# Altium schematic symbol library my_components.SchLib: 46 symbols
Pins are listed as number, name and electrical type; pins without a type are passive.

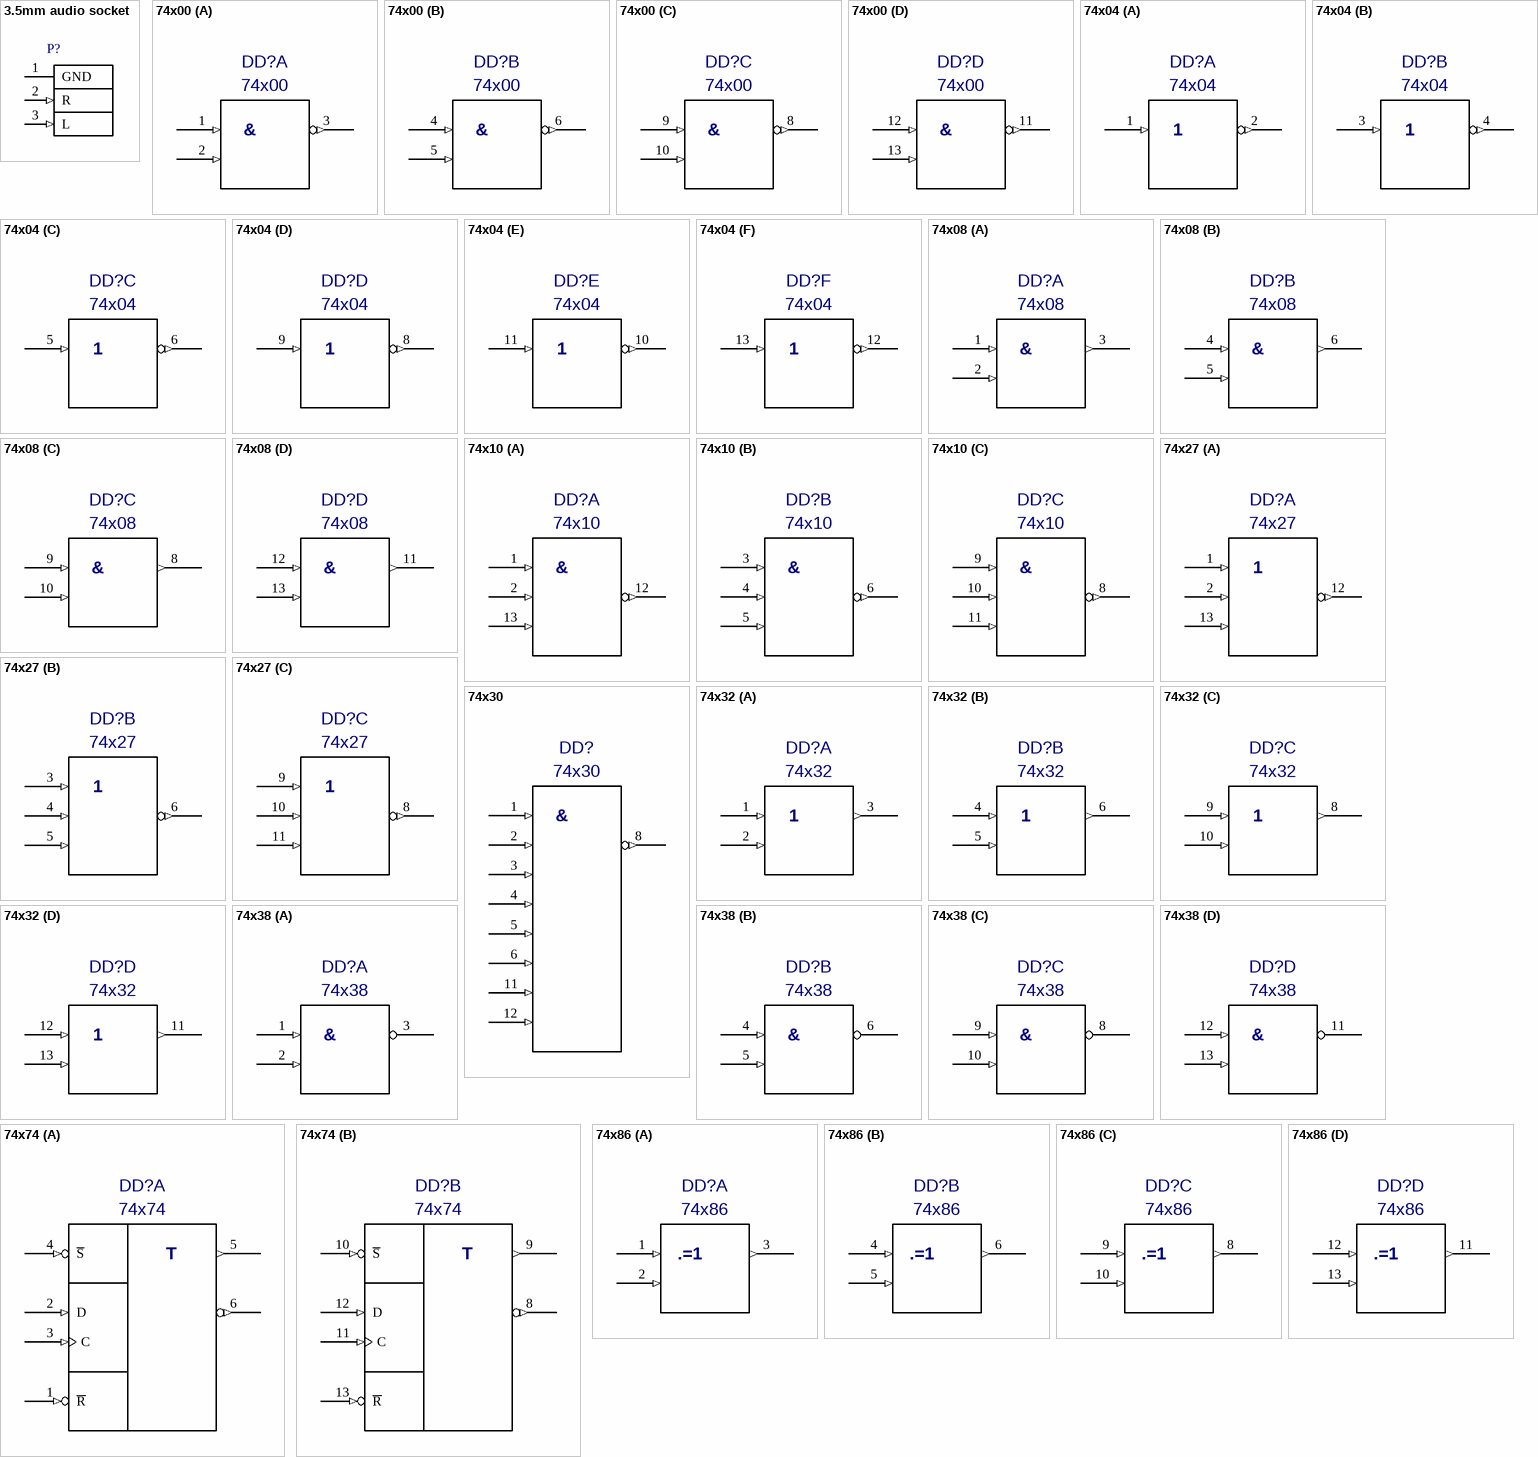
[diagram p0: symbols 3.5mm audio socket to 74x86]

## 3.5mm audio socket
designator P?  (value not drawn)
footprint ST-111
pins: 1 GND (power), 2 R (in), 3 L (in)

## 74x00
designator DD?
ЛА3 4x2NAND; Value: *
footprint DIP14
pins on every part: 7 GND (power) hidden, 14 +5V (power) hidden
part A pins: 1 (in), 2 (in), 3 (out)
part B pins: 4 (in), 5 (in), 6 (out)
part C pins: 8 (out), 9 (in), 10 (in)
part D pins: 11 (out), 12 (in), 13 (in)
part A text: &
part B text: &
part C text: &
part D text: &

## 74x04
designator DD?
ЛН1 6 inverters; Value: *
footprint DIP14
pins on every part: 7 GND (power) hidden, 14 +5V (power) hidden
part A pins: 1 (in), 2 (out)
part B pins: 3 (in), 4 (out)
part C pins: 5 (in), 6 (out)
part D pins: 8 (out), 9 (in)
part E pins: 10 (out), 11 (in)
part F pins: 12 (out), 13 (in)

## 74x08
designator DD?
ЛИ1 4x2AND; Value: *
footprint DIP14
pins on every part: 7 GND (power) hidden, 14 +5V (power) hidden
part A pins: 1 (in), 2 (in), 3 (out)
part B pins: 4 (in), 5 (in), 6 (out)
part C pins: 8 (out), 9 (in), 10 (in)
part D pins: 11 (out), 12 (in), 13 (in)
part A text: &
part B text: &
part C text: &
part D text: &

## 74x10
designator DD?
ЛА4 3x3NAND; Value: *
footprint DIP14
pins on every part: 7 GND (power) hidden, 14 +5V (power) hidden
part A pins: 1 (in), 2 (in), 12 (out), 13 (in)
part B pins: 3 (in), 4 (in), 5 (in), 6 (out)
part C pins: 8 (out), 9 (in), 10 (in), 11 (in)
part A text: &
part B text: &
part C text: &

## 74x27
designator DD?
ЛЕ4 3x3NOR; Value: *
footprint DIP14
pins on every part: 7 GND (power) hidden, 14 +5V (power) hidden
part A pins: 1 (in), 2 (in), 12 (out), 13 (in)
part B pins: 3 (in), 4 (in), 5 (in), 6 (out)
part C pins: 8 (out), 9 (in), 10 (in), 11 (in)

## 74x30
designator DD?
ЛА2 8NAND; Value: *
footprint DIP14
pins: 1 (in), 2 (in), 3 (in), 4 (in), 5 (in), 6 (in), 7 GND (power) hidden, 8 (out), 11 (in), 12 (in), 14 +5 (power) hidden
text: &

## 74x32
designator DD?
ЛЛ1 4x2OR; Value: *
footprint DIP14
pins on every part: 7 GND (power) hidden, 14 +5V (power) hidden
part A pins: 1 (in), 2 (in), 3 (out)
part B pins: 4 (in), 5 (in), 6 (out)
part C pins: 8 (out), 9 (in), 10 (in)
part D pins: 11 (out), 12 (in), 13 (in)

## 74x38
designator DD?
ЛА13 4x2NAND O.C.; Value: *
footprint DIP14
pins on every part: 7 GND (power) hidden, 14 +5 (power) hidden
part A pins: 1 (in), 2 (in), 3 (oc)
part B pins: 4 (in), 5 (in), 6 (oc)
part C pins: 8 (oc), 9 (in), 10 (in)
part D pins: 11 (oc), 12 (in), 13 (in)
part A text: &
part B text: &
part C text: &
part D text: &

## 74x74
designator DD?
ТМ2; Value: *
footprint DIP14
pins on every part: 7 GND (power) hidden, 14 +5V (power) hidden
part A pins: 1 ~{R} (in), 2 D (in), 3 C (in), 4 ~{S} (in), 5 (out), 6 (out)
part B pins: 8 (out), 9 (out), 10 ~{S} (in), 11 C (in), 12 D (in), 13 ~{R} (in)
part A text: T
part B text: T

## 74x86
designator DD?
ЛП5; Value: *
footprint DIP14
pins on every part: 7 GND (power) hidden, 14 +5V (power) hidden
part A pins: 1 (in), 2 (in), 3 (out)
part B pins: 4 (in), 5 (in), 6 (out)
part C pins: 8 (out), 9 (in), 10 (in)
part D pins: 11 (out), 12 (in), 13 (in)
part A text: .=1
part B text: .=1
part C text: .=1
part D text: .=1

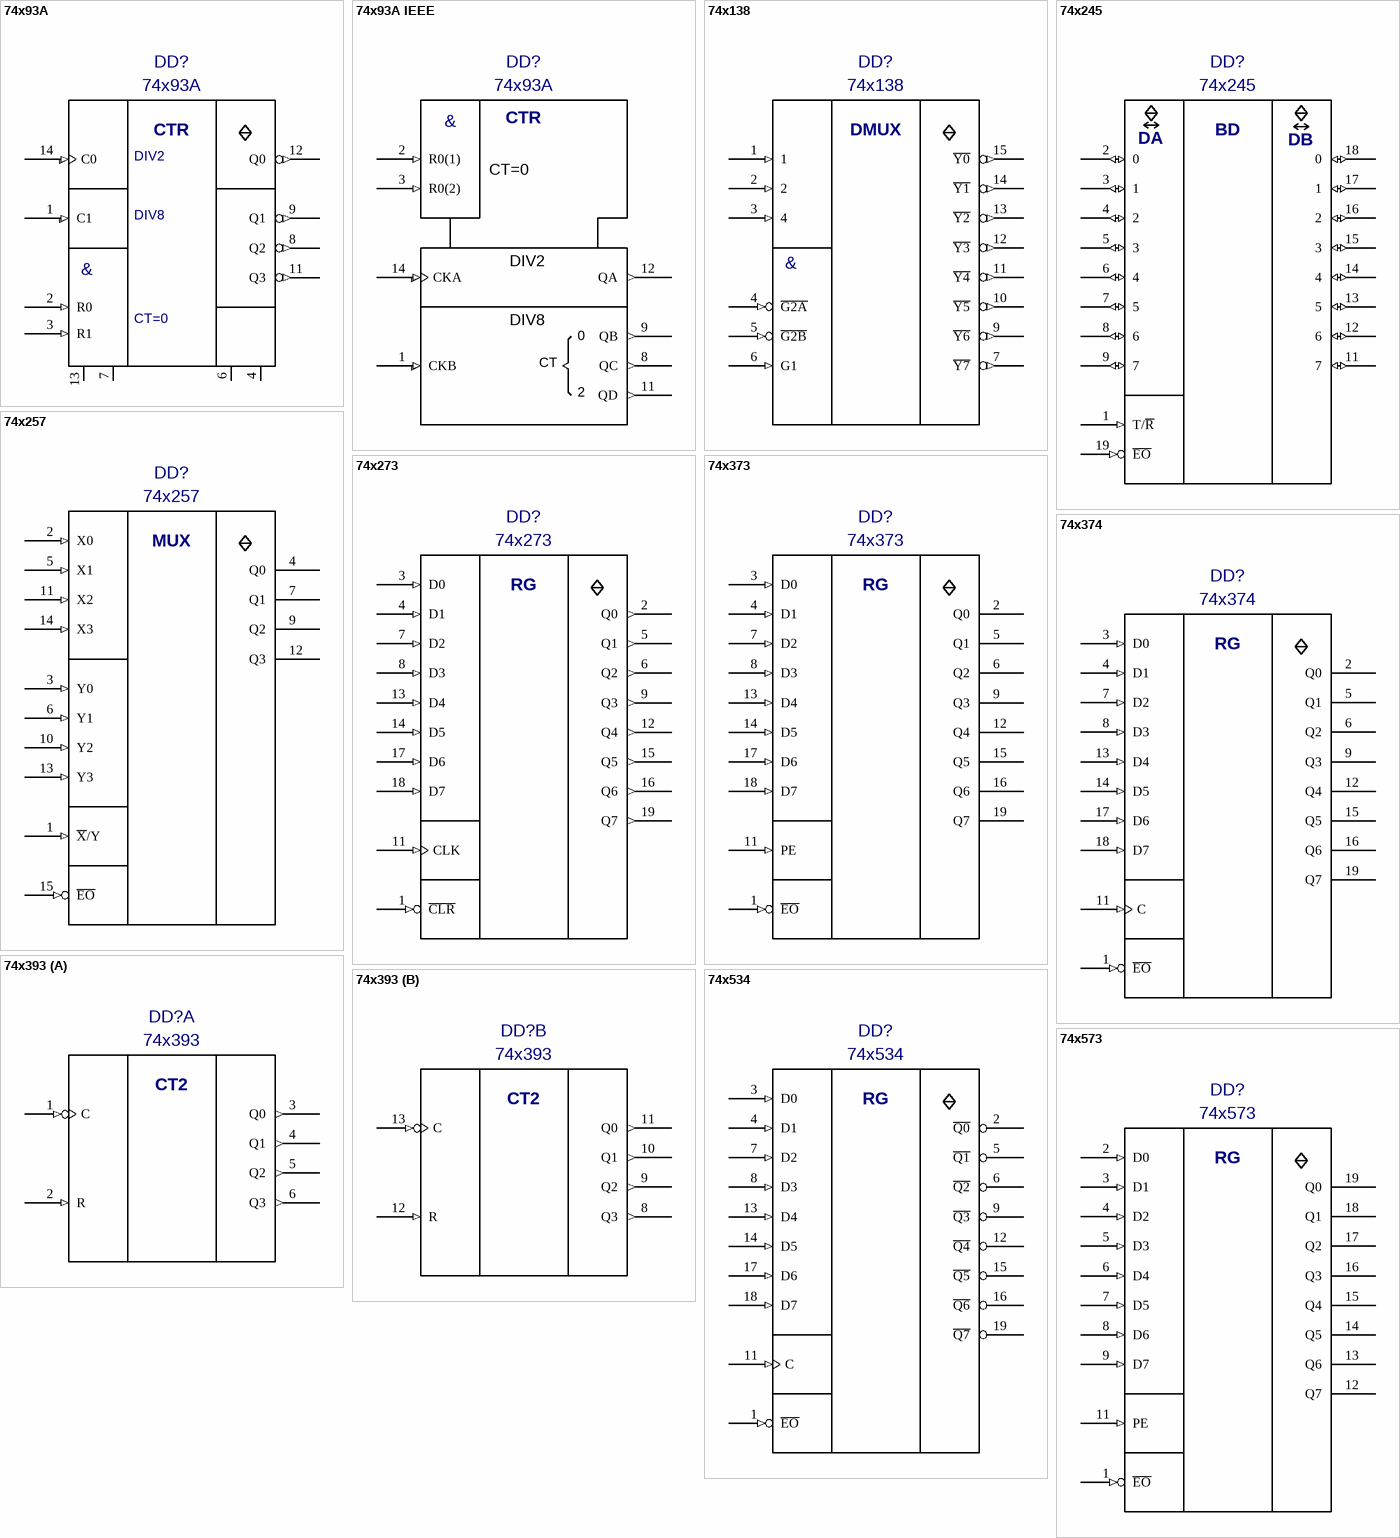
[diagram p1: symbols 74x93A to 74x573]

## 74x93A
designator DD?
ИЕ5; Value: *
footprint DIP14
pins: 1 С1 (in), 2 R0 (in), 3 R1 (in), 4 N.C., 5 +5 (power) hidden, 6 N.C., 7 N.C., 8 Q2 (out), 9 Q1 (out), 10 GND (power) hidden, 11 Q3 (out), 12 Q0 (out), 13 N.C., 14 С0 (in)
text: CTR; DIV2; DIV8; &; CT=0

## 74x93A IEEE
designator DD?, comment 74x93A
ИЕ5; Value: *
footprint DIP14
pins: 1 CKB (in), 2 R0(1) (in), 3 R0(2) (in), 4 N.C. hidden, 5 +5 (power) hidden, 6 N.C. hidden, 7 N.C. hidden, 8 QC (out), 9 QB (out), 10 GND (power) hidden, 11 QD (out), 12 QA (out), 13 N.C. hidden, 14 CKA (in)
text: CTR; &; CT=0; DIV2; DIV8; 0; CT

## 74x138
designator DD?
ИД7 3 to 8 DEMUX; Value: *
footprint DIP16
pins: 1 (in), 2 (in), 3 4 (in), 4 ~{G2A} (in), 5 ~{G2B} (in), 6 G1 (in), 7 ~{Y7} (out), 8 GND (power) hidden, 9 ~{Y6} (out), 10 ~{Y5} (out), 11 ~{Y4} (out), 12 ~{Y3} (out), 13 ~{Y2} (out), 14 ~{Y1} (out), 15 ~{Y0} (out), 16 +5 (power) hidden
text: DMUX; &

## 74x245
designator DD?
АП6; Value: *
footprint DIP20
pins: 1 T/~{R} (in), 2 0 (io), 3 1 (io), 4 2 (io), 5 3 (io), 6 4 (io), 7 5 (io), 8 6 (io), 9 7 (io), 10 GND (power) hidden, 11 7 (io), 12 6 (io), 13 5 (io), 14 4 (io), 15 3 (io), 16 2 (io), 17 1 (io), 18 0 (io), 19 ~{EO} (in), 20 +5V (power) hidden
text: BD; DA; DB

## 74x257
designator DD?
КП11; Value: *
footprint DIP16
pins: 1 ~{X}/Y (in), 2 X0 (in), 3 Y0 (in), 4 Q0 (hiz), 5 X1 (in), 6 Y1 (in), 7 Q1 (hiz), 8 GND (power) hidden, 9 Q2 (hiz), 10 Y2 (in), 11 X2 (in), 12 Q3 (hiz), 13 Y3 (in), 14 X3 (in), 15 ~{EO} (in), 16 +5V (power) hidden
text: MUX

## 74x273
designator DD?
ИР35; Value: *
footprint DIP20
pins: 1 ~{CLR} (in), 2 Q0 (out), 3 D0 (in), 4 D1 (in), 5 Q1 (out), 6 Q2 (out), 7 D2 (in), 8 D3 (in), 9 Q3 (out), 10 GND (power) hidden, 11 CLK (in), 12 Q4 (out), 13 D4 (in), 14 D5 (in), 15 Q5 (out), 16 Q6 (out), 17 D6 (in), 18 D7 (in), 19 Q7 (out), 20 +5V (power) hidden
text: RG

## 74x373
designator DD?
ИР22 transparent latch; Value: *
footprint DIP20
pins: 1 ~{EO} (in), 2 Q0 (hiz), 3 D0 (in), 4 D1 (in), 5 Q1 (hiz), 6 Q2 (hiz), 7 D2 (in), 8 D3 (in), 9 Q3 (hiz), 10 GND (power) hidden, 11 PE (in), 12 Q4 (hiz), 13 D4 (in), 14 D5 (in), 15 Q5 (hiz), 16 Q6 (hiz), 17 D6 (in), 18 D7 (in), 19 Q7 (hiz), 20 +5V (power) hidden
text: RG

## 74x374
designator DD?
ИР23 D flip-flop; Value: *
footprint DIP20
pins: 1 ~{EO} (in), 2 Q0 (hiz), 3 D0 (in), 4 D1 (in), 5 Q1 (hiz), 6 Q2 (hiz), 7 D2 (in), 8 D3 (in), 9 Q3 (hiz), 10 GND (power) hidden, 11 C (in), 12 Q4 (hiz), 13 D4 (in), 14 D5 (in), 15 Q5 (hiz), 16 Q6 (hiz), 17 D6 (in), 18 D7 (in), 19 Q7 (hiz), 20 +5V (power) hidden
text: RG

## 74x393
designator DD?
ИЕ19; Value: *
footprint DIP14
part A pins: 1 С (in), 2 R (in), 3 Q0 (out), 4 Q1 (out), 5 Q2 (out), 6 Q3 (out), 7 GND (power) hidden, 14 +5 (power) hidden
part B pins: 8 Q3 (out), 9 Q2 (out), 10 Q1 (out), 11 Q0 (out), 12 R (in), 13 С (in)
part A text: CT2
part B text: CT2

## 74x534
designator DD?
ИР41 D flip-flop; Value: *
footprint DIP20
pins: 1 ~{EO} (in), 2 ~{Q0} (hiz), 3 D0 (in), 4 D1 (in), 5 ~{Q1} (hiz), 6 ~{Q2} (hiz), 7 D2 (in), 8 D3 (in), 9 ~{Q3} (hiz), 10 GND (power) hidden, 11 C (in), 12 ~{Q4} (hiz), 13 D4 (in), 14 D5 (in), 15 ~{Q5} (hiz), 16 ~{Q6} (hiz), 17 D6 (in), 18 D7 (in), 19 ~{Q7} (hiz), 20 +5V (power) hidden
text: RG

## 74x573
designator DD?
ИР22 transparent latch; Value: *
footprint DIP20
pins: 1 ~{EO} (in), 2 D0 (in), 3 D1 (in), 4 D2 (in), 5 D3 (in), 6 D4 (in), 7 D5 (in), 8 D6 (in), 9 D7 (in), 10 GND (power) hidden, 11 PE (in), 12 Q7 (hiz), 13 Q6 (hiz), 14 Q5 (hiz), 15 Q4 (hiz), 16 Q3 (hiz), 17 Q2 (hiz), 18 Q1 (hiz), 19 Q0 (hiz), 20 +5V (power) hidden
text: RG

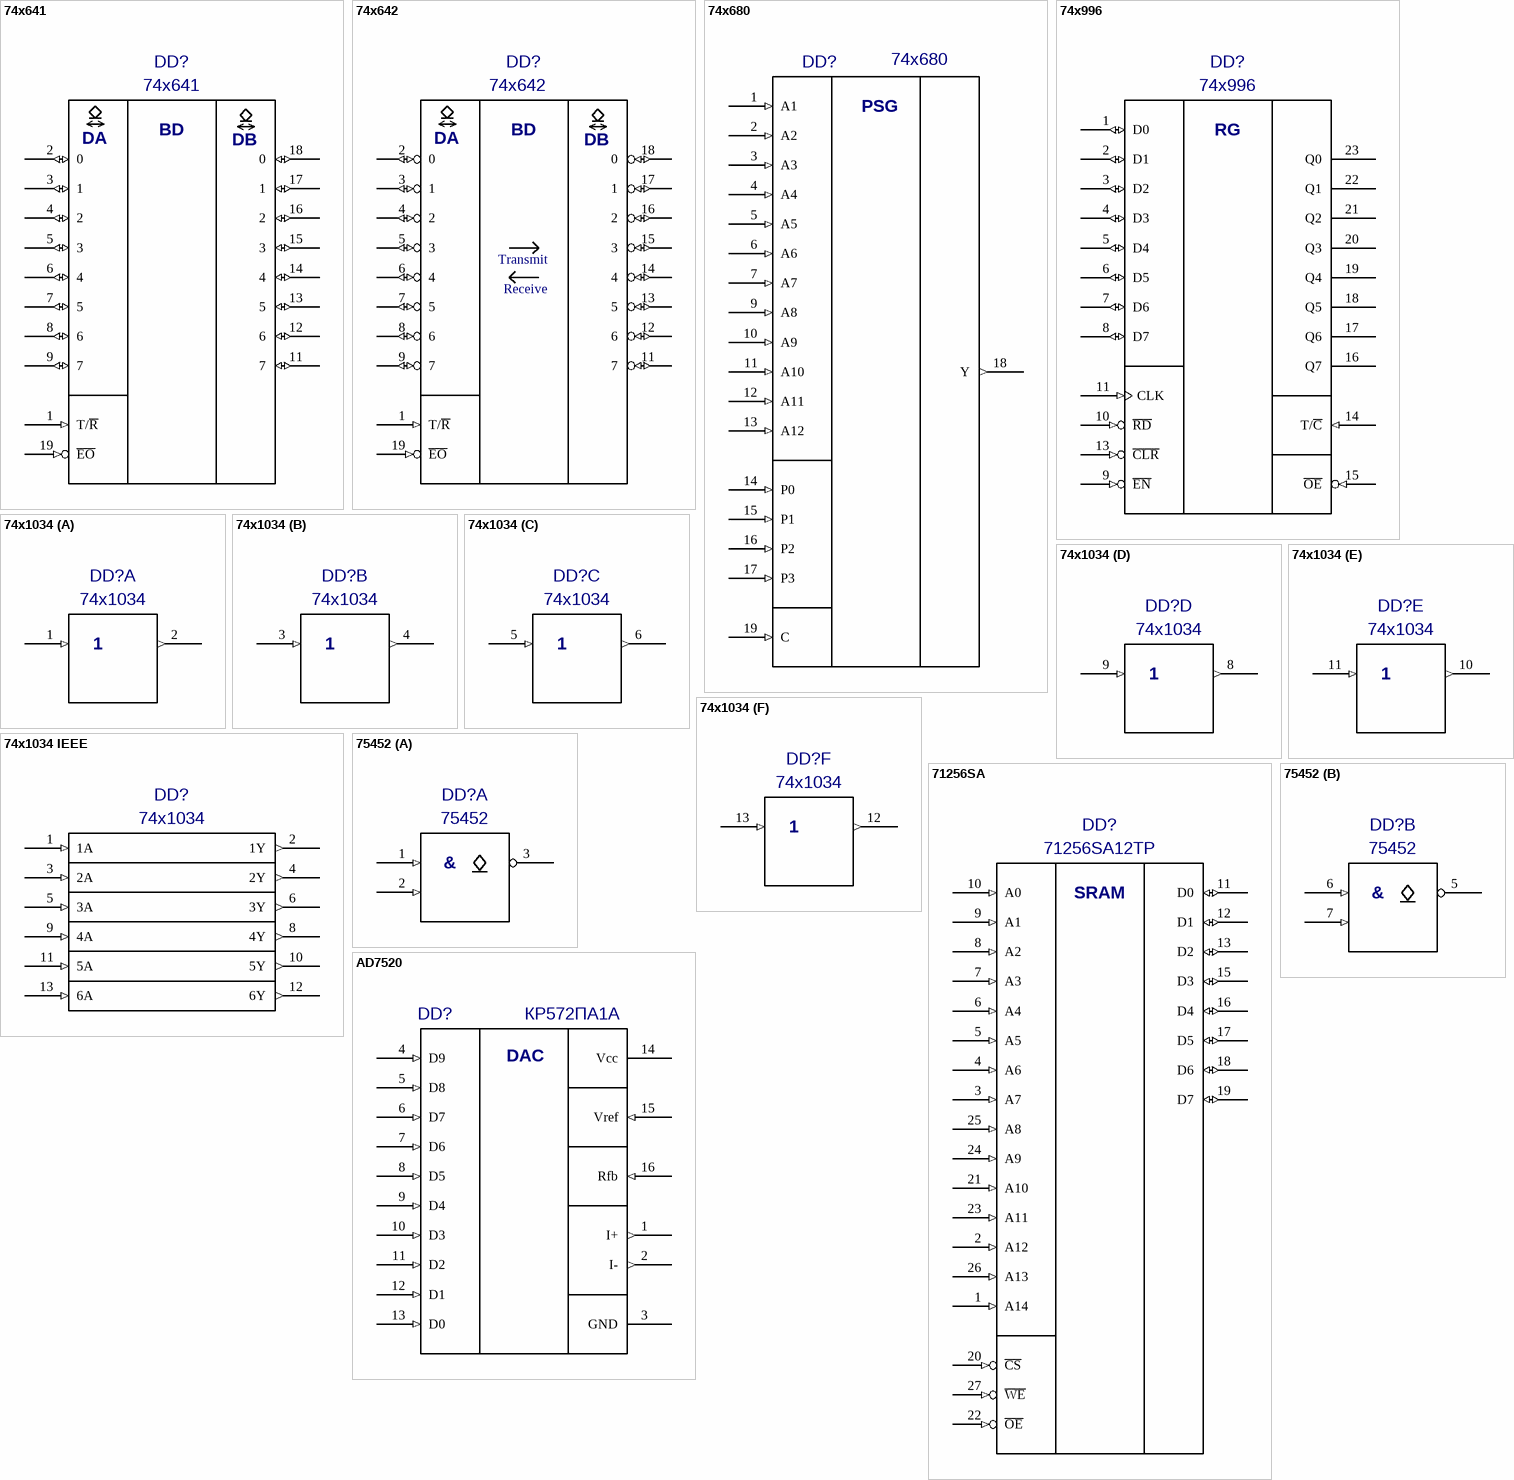
[diagram p2: symbols 74x641 to AD7520]

## 74x641
designator DD?
АП7; Value: *
footprint DIP20
pins: 1 T/~{R} (in), 2 0 (io), 3 1 (io), 4 2 (io), 5 3 (io), 6 4 (io), 7 5 (io), 8 6 (io), 9 7 (io), 10 GND (power) hidden, 11 7 (io), 12 6 (io), 13 5 (io), 14 4 (io), 15 3 (io), 16 2 (io), 17 1 (io), 18 0 (io), 19 ~{EO} (in), 20 +5V (power) hidden
text: BD; DA; DB

## 74x642
designator DD?
Value: *
footprint DIP20
pins: 1 T/~{R} (in), 2 0 (io), 3 1 (io), 4 2 (io), 5 3 (io), 6 4 (io), 7 5 (io), 8 6 (io), 9 7 (io), 10 GND (power) hidden, 11 7 (io), 12 6 (io), 13 5 (io), 14 4 (io), 15 3 (io), 16 2 (io), 17 1 (io), 18 0 (io), 19 ~{EO} (in), 20 Vcc (power) hidden
text: BD; DA; DB; Transmit; Receive

## 74x680
designator DD?
Address comparator with latch; Value: *
footprint DIP20
pins: 1 A1 (in), 2 A2 (in), 3 A3 (in), 4 A4 (in), 5 A5 (in), 6 A6 (in), 7 A7 (in), 8 GND (power) hidden, 9 A8 (in), 10 A9 (in), 11 A10 (in), 12 A11 (in), 13 A12 (in), 14 P0 (in), 15 P1 (in), 16 P2 (in), 17 P3 (in), 18 Y (out), 19 C (in), 20 +5 (power) hidden
text: PSG

## 74x996
designator DD?
Value: *
footprint DIP24 narrow
pins: 1 D0 (io), 2 D1 (io), 3 D2 (io), 4 D3 (io), 5 D4 (io), 6 D5 (io), 7 D6 (io), 8 D7 (io), 9 ~{EN} (in), 10 ~{RD} (in), 11 CLK (in), 12 Vss (power) hidden, 13 ~{CLR} (in), 14 T/~{C} (in), 15 ~{OE} (in), 16 Q7 (hiz), 17 Q6 (hiz), 18 Q5 (hiz), 19 Q4 (hiz), 20 Q3 (hiz), 21 Q2 (hiz), 22 Q1 (hiz), 23 Q0 (hiz), 24 Vcc (power) hidden
text: RG

## 74x1034
designator DD?
ЛП19 6 buffers; Value: *
footprint DIP14
part A pins: 1 (in), 2 (out), 7 GND (power) hidden, 14 +5 (power) hidden
part B pins: 3 (in), 4 (out)
part C pins: 5 (in), 6 (out)
part D pins: 8 (out), 9 (in)
part E pins: 10 (out), 11 (in)
part F pins: 12 (out), 13 (in)

## 74x1034 IEEE
designator DD?, comment 74x1034
ЛП19 6 buffers; Value: *
footprint DIP14
pins: 1 1A (in), 2 1Y (out), 3 2A (in), 4 2Y (out), 5 3A (in), 6 3Y (out), 7 GND (power) hidden, 8 4Y (out), 9 4A (in), 10 5Y (out), 11 5A (in), 12 6Y (out), 13 6A (in), 14 +5 (power) hidden

## 71256SA
designator DD?, comment 71256SA12TP
Value: *
footprint DIP28
pins: 1 A14 (in), 2 A12 (in), 3 A7 (in), 4 A6 (in), 5 A5 (in), 6 A4 (in), 7 A3 (in), 8 A2 (in), 9 A1 (in), 10 A0 (in), 11 D0 (io), 12 D1 (io), 13 D2 (io), 14 GND (power) hidden, 15 D3 (io), 16 D4 (io), 17 D5 (io), 18 D6 (io), 19 D7 (io), 20 ~{CS} (in), 21 A10 (in), 22 ~{OE} (in), 23 A11 (in), 24 A9 (in), 25 A8 (in), 26 A13 (in), 27 ~{WE} (in), 28 Vcc (power) hidden
text: SRAM

## 75452
designator DD?
ЛА18 2x2NAND OC; Value: *
footprint DIP8
pins on every part: 4 GND (power) hidden, 8 +5V (power) hidden
part A pins: 1 (in), 2 (in), 3 (oc)
part B pins: 5 (oc), 6 (in), 7 (in)
part A text: &
part B text: &

## AD7520
designator DD?, comment КР572ПА1А
footprint DIP16
pins: 1 I+ (out) "аналоговый выход 1", 2 I- (out) "аналоговый выход 2", 3 GND (power) "Ground", 4 D9 (in), 5 D8 (in), 6 D7 (in), 7 D6 (in), 8 D5 (in), 9 D4 (in), 10 D3 (in), 11 D2 (in), 12 D1 (in), 13 D0 (in), 14 Vcc (power) "питание (плюс)", 15 Vref (in) "опорное напряжение", 16 Rfb (in) "Вывод резистора обратной связи"
text: DAC

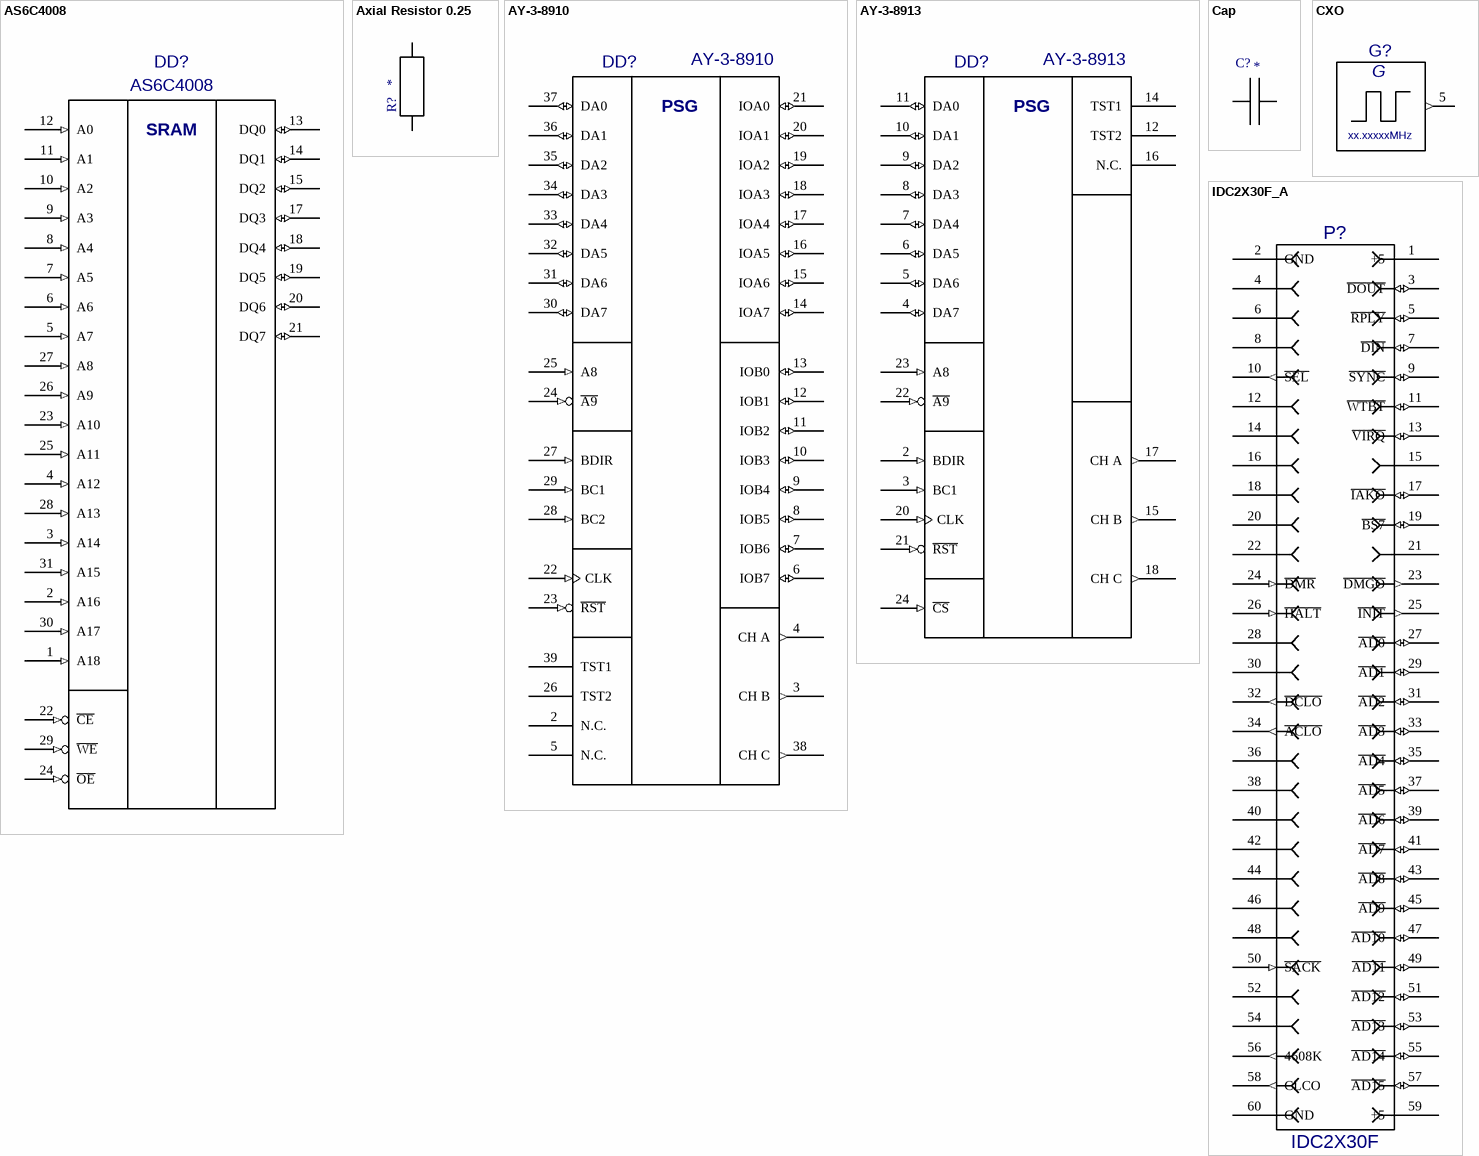
[diagram p3: symbols AS6C4008 to IDC2X30F_A]

## AS6C4008
designator DD?
Value: *
footprint DIP32
pins: 1 A18 (in), 2 A16 (in), 3 A14 (in), 4 A12 (in), 5 A7 (in), 6 A6 (in), 7 A5 (in), 8 A4 (in), 9 A3 (in), 10 A2 (in), 11 A1 (in), 12 A0 (in), 13 DQ0 (io), 14 DQ1 (io), 15 DQ2 (io), 16 Vss (power) hidden, 17 DQ3 (io), 18 DQ4 (io), 19 DQ5 (io), 20 DQ6 (io), 21 DQ7 (io), 22 ~{CE} (in), 23 A10 (in), 24 ~{OE} (in), 25 A11 (in), 26 A9 (in), 27 A8 (in), 28 A13 (in), 29 ~{WE} (in), 30 A17 (in), 31 A15 (in), 32 Vcc (power) hidden
text: SRAM

## Axial Resistor 0.25
designator R?
footprint Axial Res 0.25
pins: ?1, ?2

## AY-3-8910
designator DD?
Value: *
footprint DIP40
pins: 1 Vss (power) hidden "Ground", 2 N.C., 3 CH B (out), 4 CH A (out), 5 N.C., 6 IOB7 (io), 7 IOB6 (io), 8 IOB5 (io), 9 IOB4 (io), 10 IOB3 (io), 11 IOB2 (io), 12 IOB1 (io), 13 IOB0 (io), 14 IOA7 (io), 15 IOA6 (io), 16 IOA5 (io), 17 IOA4 (io), 18 IOA3 (io), 19 IOA2 (io), 20 IOA1 (io), 21 IOA0 (io), 22 CLK (in), 23 ~{RST} (in), 24 ~{A9} (in), 25 A8 (in), 26 TST2, 27 BDIR (in), 28 BC2 (in), 29 BC1 (in), 30 DA7 (io), 31 DA6 (io), 32 DA5 (io), 33 DA4 (io), 34 DA3 (io), 35 DA2 (io), 36 DA1 (io), 37 DA0 (io), 38 CH C (out), 39 TST1, 40 Vcc (power) hidden "+5V"
text: PSG

## AY-3-8913
designator DD?
Value: *
footprint DIP24
pins: 1 GND (power) hidden "Ground", 2 BDIR (in), 3 BC1 (in), 4 DA7 (io), 5 DA6 (io), 6 DA5 (io), 7 DA4 (io), 8 DA3 (io), 9 DA2 (io), 10 DA1 (io), 11 DA0 (io), 12 TST2, 13 Vcc (power) hidden "+5V", 14 TST1, 15 CH B (out), 16 N.C., 17 CH A (out), 18 CH C (out), 19 GND (power) hidden "Ground", 20 CLK (in), 21 ~{RST} (in), 22 ~{A9} (in), 23 A8 (in), 24 ~{CS} (in) "Chip select"
text: PSG

## Cap
designator C?
Murata ceramic capacitor
footprint CAP 5.5x3.15
pins: 1, 2

## CXO
designator G?  Frequency: xx.xxxxxMHz  (hidden comment: *)
footprint DIP8 CXO
pins: 1 N.C. hidden, 4 GND (power) hidden, 5 (out), 8 +5 hidden
text: G

## IDC2X30F_A
designator P?, comment IDC2X30F
IDC МПИ; Value: *
footprint IDC60F
pins: 1 +5 (power), 2 GND (power), 3 ~{DOUT} (io), 4 (hiz), 5 ~{RPLY} (io), 6 (hiz), 7 ~{DIN} (io), 8 (hiz), 9 ~{SYNC} (io), 10 ~{SEL} (out), 11 ~{WTBT} (io), 12 (hiz), 13 ~{VIRQ} (io), 14 (hiz), 15 P8 (hiz), 16 P8 (hiz), 17 ~{IAKO} (io), 18 (hiz), 19 ~{BS7} (io), 20 (hiz), 21 P11 (hiz), 22 P11 (hiz), 23 ~{DMGO} (out), 24 ~{DMR} (in), 25 ~{INIT} (out), 26 ~{HALT} (in), 27 ~{AD0} (io), 28 (hiz), 29 ~{AD1} (io), 30 (hiz), 31 ~{AD2} (io), 32 ~{DCLO} (out), 33 ~{AD3} (io), 34 ~{ACLO} (out), 35 ~{AD4} (io), 36 (hiz), 37 ~{AD5} (io), 38 (hiz), 39 ~{AD6} (io), 40 (hiz), 41 ~{AD7} (io), 42 (hiz), 43 ~{AD8} (io), 44 (hiz), 45 ~{AD9} (io), 46 (hiz), 47 ~{AD10} (io), 48 (hiz), 49 ~{AD11} (io), 50 ~{SACK} (in), 51 ~{AD12} (io), 52 (hiz), 53 ~{AD13} (io), 54 (hiz), 55 ~{AD14} (io), 56 4608K (out), 57 ~{AD15} (io), 58 CLCO (out), 59 +5 (power), 60 GND (power)

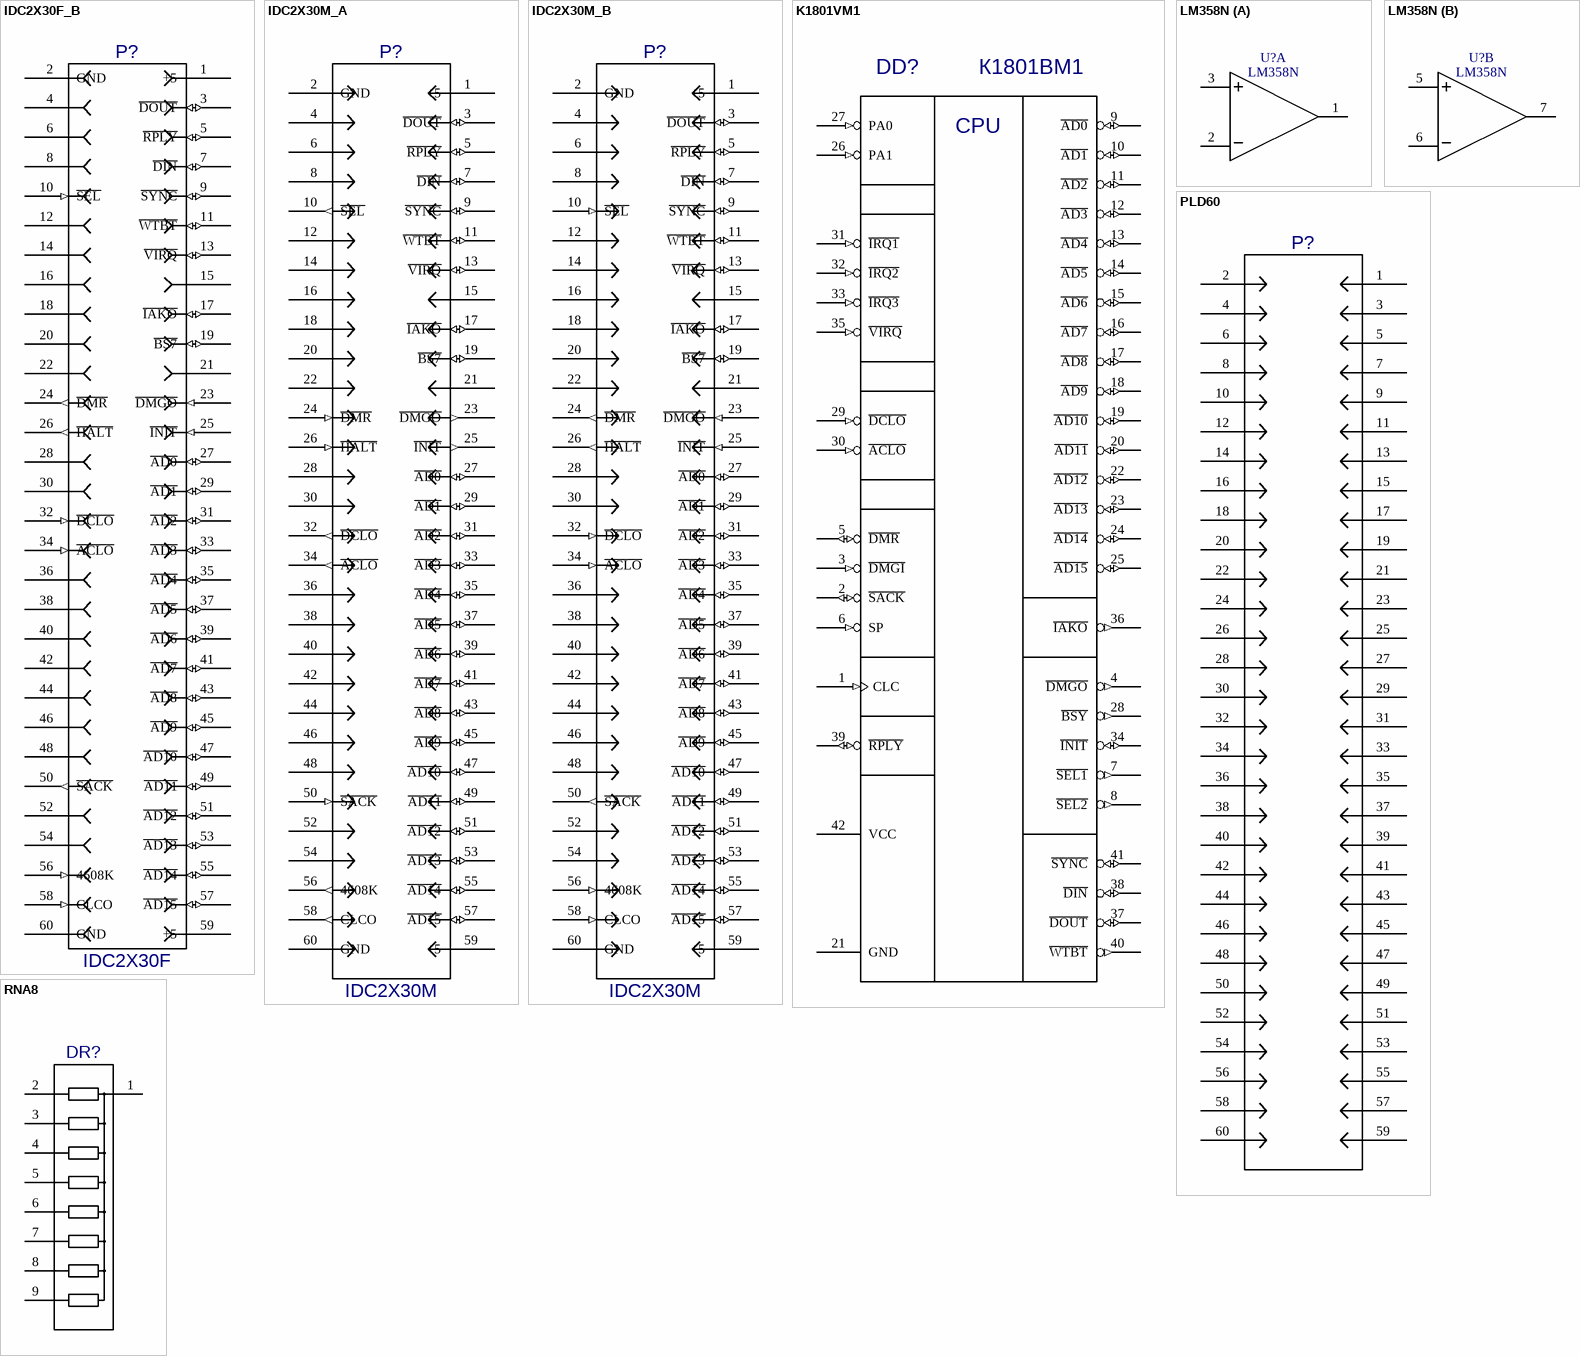
[diagram p4: symbols IDC2X30F_B to RNA8]

## IDC2X30F_B
designator P?, comment IDC2X30F
IDC МПИ; Value: *
footprint IDC60F
pins: 1 +5 (power), 2 GND (power), 3 ~{DOUT} (io), 4 (hiz), 5 ~{RPLY} (io), 6 (hiz), 7 ~{DIN} (io), 8 (hiz), 9 ~{SYNC} (io), 10 ~{SEL} (in), 11 ~{WTBT} (io), 12 (hiz), 13 ~{VIRQ} (io), 14 (hiz), 15 P8 (hiz), 16 P8 (hiz), 17 ~{IAKO} (io), 18 (hiz), 19 ~{BS7} (io), 20 (hiz), 21 P11 (hiz), 22 P11 (hiz), 23 ~{DMGO} (in), 24 ~{DMR} (out), 25 ~{INIT} (in), 26 ~{HALT} (out), 27 ~{AD0} (io), 28 (hiz), 29 ~{AD1} (io), 30 (hiz), 31 ~{AD2} (io), 32 ~{DCLO} (in), 33 ~{AD3} (io), 34 ~{ACLO} (in), 35 ~{AD4} (io), 36 (hiz), 37 ~{AD5} (io), 38 (hiz), 39 ~{AD6} (io), 40 (hiz), 41 ~{AD7} (io), 42 (hiz), 43 ~{AD8} (io), 44 (hiz), 45 ~{AD9} (io), 46 (hiz), 47 ~{AD10} (io), 48 (hiz), 49 ~{AD11} (io), 50 ~{SACK} (out), 51 ~{AD12} (io), 52 (hiz), 53 ~{AD13} (io), 54 (hiz), 55 ~{AD14} (io), 56 4608K (in), 57 ~{AD15} (io), 58 CLCO (in), 59 +5 (power), 60 GND (power)

## IDC2X30M_A
designator P?, comment IDC2X30M
IDC МПИ; Value: *
footprint IDC60M
pins: 1 +5 (power), 2 GND (power), 3 ~{DOUT} (io), 4 (hiz), 5 ~{RPLY} (io), 6 (hiz), 7 ~{DIN} (io), 8 (hiz), 9 ~{SYNC} (io), 10 ~{SEL} (out), 11 ~{WTBT} (io), 12 (hiz), 13 ~{VIRQ} (io), 14 (hiz), 15 (hiz), 16 (hiz), 17 ~{IAKO} (io), 18 (hiz), 19 ~{BS7} (io), 20 (hiz), 21 (hiz), 22 (hiz), 23 ~{DMGO} (out), 24 ~{DMR} (in), 25 ~{INIT} (out), 26 ~{HALT} (in), 27 ~{AD0} (io), 28 (hiz), 29 ~{AD1} (io), 30 (hiz), 31 ~{AD2} (io), 32 ~{DCLO} (out), 33 ~{AD3} (io), 34 ~{ACLO} (out), 35 ~{AD4} (io), 36 (hiz), 37 ~{AD5} (io), 38 (hiz), 39 ~{AD6} (io), 40 (hiz), 41 ~{AD7} (io), 42 (hiz), 43 ~{AD8} (io), 44 (hiz), 45 ~{AD9} (io), 46 (hiz), 47 ~{AD10} (io), 48 (hiz), 49 ~{AD11} (io), 50 ~{SACK} (in), 51 ~{AD12} (io), 52 (hiz), 53 ~{AD13} (io), 54 (hiz), 55 ~{AD14} (io), 56 4608K (out), 57 ~{AD15} (io), 58 CLCO (out), 59 +5 (power), 60 GND (power)

## IDC2X30M_B
designator P?, comment IDC2X30M
IDC МПИ; Value: *
footprint IDC60M
pins: 1 +5 (power), 2 GND (power), 3 ~{DOUT} (io), 4 (hiz), 5 ~{RPLY} (io), 6 (hiz), 7 ~{DIN} (io), 8 (hiz), 9 ~{SYNC} (io), 10 ~{SEL} (in), 11 ~{WTBT} (io), 12 (hiz), 13 ~{VIRQ} (io), 14 (hiz), 15 P8 (hiz), 16 P8 (hiz), 17 ~{IAKO} (io), 18 (hiz), 19 ~{BS7} (io), 20 (hiz), 21 P11 (hiz), 22 P11 (hiz), 23 ~{DMGO} (in), 24 ~{DMR} (out), 25 ~{INIT} (in), 26 ~{HALT} (out), 27 ~{AD0} (io), 28 (hiz), 29 ~{AD1} (io), 30 (hiz), 31 ~{AD2} (io), 32 ~{DCLO} (in), 33 ~{AD3} (io), 34 ~{ACLO} (in), 35 ~{AD4} (io), 36 (hiz), 37 ~{AD5} (io), 38 (hiz), 39 ~{AD6} (io), 40 (hiz), 41 ~{AD7} (io), 42 (hiz), 43 ~{AD8} (io), 44 (hiz), 45 ~{AD9} (io), 46 (hiz), 47 ~{AD10} (io), 48 (hiz), 49 ~{AD11} (io), 50 ~{SACK} (out), 51 ~{AD12} (io), 52 (hiz), 53 ~{AD13} (io), 54 (hiz), 55 ~{AD14} (io), 56 4608K (in), 57 ~{AD15} (io), 58 CLCO (in), 59 +5 (power), 60 GND (power)

## K1801VM1
designator DD?, comment К1801ВМ1
Value: *
footprint 429-42
pins: 1 CLC (in), 2 ~{SACK} (io), 3 ~{DMGI} (in), 4 ~{DMGO} (out), 5 ~{DMR} (io), 6 SP (in), 7 ~{SEL1} (out), 8 ~{SEL2} (out), 9 ~{AD0} (io), 10 ~{AD1} (io), 11 ~{AD2} (io), 12 ~{AD3} (io), 13 ~{AD4} (io), 14 ~{AD5} (io), 15 ~{AD6} (io), 16 ~{AD7} (io), 17 ~{AD8} (io), 18 ~{AD9} (io), 19 ~{AD10} (io), 20 ~{AD11} (io), 21 GND (power), 22 ~{AD12} (io), 23 ~{AD13} (io), 24 ~{AD14} (io), 25 ~{AD15} (io), 26 PA1 (in), 27 PA0 (in), 28 ~{BSY} (out), 29 ~{DCLO} (in), 30 ~{ACLO} (in), 31 ~{IRQ1} (in), 32 ~{IRQ2} (in), 33 ~{IRQ3} (in), 34 ~{INIT} (io), 35 ~{VIRQ} (in), 36 ~{IAKO} (out), 37 ~{DOUT} (io), 38 ~{DIN} (io), 39 ~{RPLY} (io), 40 ~{WTBT} (out), 41 ~{SYNC} (io), 42 VCC (power)
text: CPU

## LM358N
designator U?
footprint DIP8
part A pins: 1 Aout, 2 A-, 3 A+, 4 GND (power) hidden, 8 V+ (power) hidden
part B pins: 5 B+, 6 B-, 7 Bout
part A text: +; −
part B text: +; −

## PLD60
designator P?
Value: *
footprint PLD60
pins: 1, 2, 3, 4, 5, 6, 7, 8, 9, 10, 11, 12, 13, 14, 15, 16, 17, 18, 19, 20, 21, 22, 23, 24, 25, 26, 27, 28, 29, 30, 31, 32, 33, 34, 35, 36, 37, 38, 39, 40, 41, 42, 43, 44, 45, 46, 47, 48, 49, 50, 51, 52, 53, 54, 55, 56, 57, 58, 59, 60

## RNA8
designator DR?  (value not drawn)
footprint SIP9
pins: 1, 2, 3, 4, 5, 6, 7, 8, 9

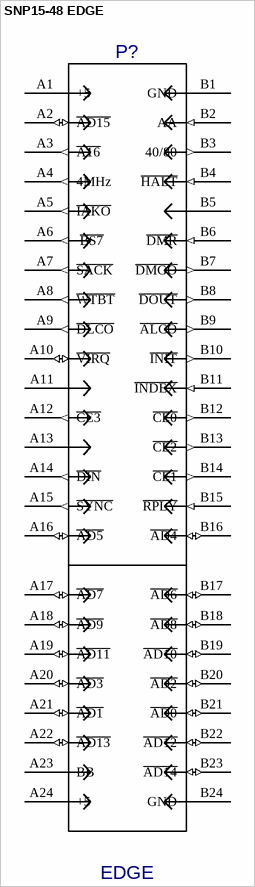
[diagram p5: symbol SNP15-48 EDGE]

## SNP15-48 EDGE
designator P?, comment EDGE
Value: *
footprint SNP15-48 EDGE
pins: A1 +5 (power), A2 ~{AD15} (io), A3 ~{A16} (out), A4 4MHz (out), A5 ~{IAKO} (out), A6  ~{BS7} (out), A7 ~{SACK} (out), A8 ~{WTBT} (out), A9 ~{DLCO} (out), A10 ~{VIRQ} (io), A11 (hiz), A12 ~{CE3} (out), A13 (hiz), A14 ~{DIN} (out), A15 ~{SYNC} (out), A16 ~{AD5} (io), A17 ~{AD7} (io), A18 ~{AD9} (io), A19 ~{AD11} (io), A20 ~{AD3} (io), A21 ~{AD1} (io), A22 ~{AD13} (io), A23 BB (hiz) "NC", A24 +5 (power), B1 GND (power), B2 AA (in) "grounded on main board", B3 40/80 (out), B4 ~{HALT} (in), B5 (hiz), B6 ~{DMR} (in), B7 ~{DMGO} (out), B8 ~{DOUT} (out), B9 ~{ALCO} (out), B10 ~{INIT} (out), B11 ~{INDEX} (in), B12 ~{CE0} (out), B13 ~{CE2} (out), B14 ~{CE1} (out), B15 ~{RPLY} (in), B16 ~{AD4} (io), B17 ~{AD6} (io), B18 ~{AD8} (io), B19 ~{AD10} (io), B20 ~{AD2} (io), B21 ~{AD0} (io), B22 ~{AD12} (io), B23 ~{AD14} (io), B24 GND (power)